# Altium integrated library EMG circuit board.IntLib: 8 symbols
Pins are listed as number, name and electrical type; pins without a type are passive.

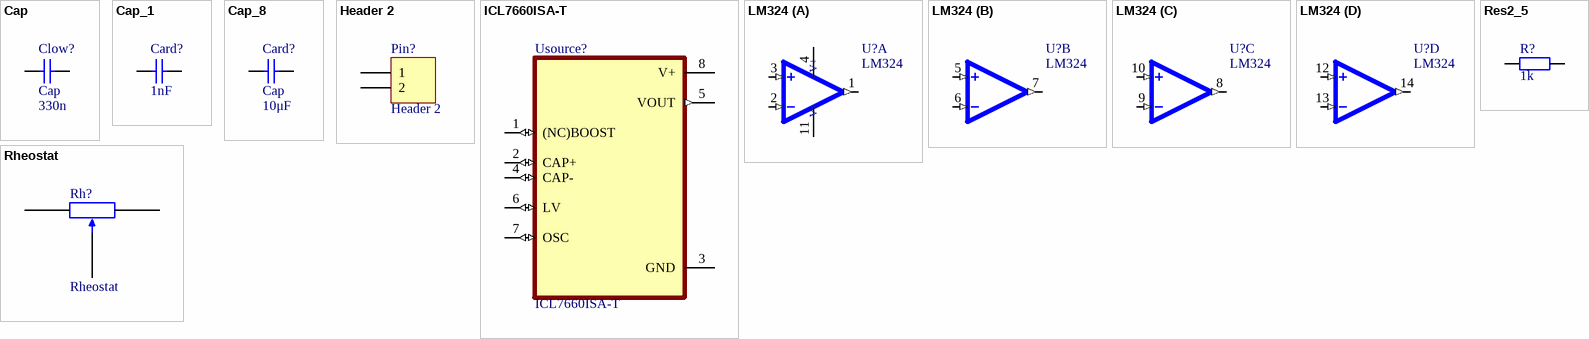
[diagram p0: symbols Cap to Rheostat]

## Cap
designator Clow?  value 330n
Capacitor; Published: 8-Jun-2000; LatestRevisionDate: 17-Jul-2002; LatestRevisionNote: Re-released for DXP Platform.; PackageReference: RAD-0.3; Publisher: Altium Limited; PackageDescription: Radial Cap, Thru-Hole; 2 Leads; 0.3 in Pin Spacing
footprint RAD-0.3 (Radial Cap, Thru-Hole; 2 Leads; 0.3 in Pin Spacing)
simulation model CAP (Capacitor)
signal-integrity model Cap
footprint 0603 (Chip Inductor, Body 0.6x0.3mm, IPC High Density)
footprint Model Name (Footprint not found)
footprint 0603 (Chip Inductor, Body 0.6x0.3mm, IPC High Density)
footprint LC-0603_C
pins: 1, 2

## Cap_1
designator Card?, comment value 1nF  (hidden comment: Cap)
Capacitor; Published: 8-Jun-2000; LatestRevisionDate: 17-Jul-2002; LatestRevisionNote: Re-released for DXP Platform.; PackageReference: RAD-0.3; Publisher: Altium Limited; PackageDescription: Radial Cap, Thru-Hole; 2 Leads; 0.3 in Pin Spacing
footprint RAD-0.3 (Radial Cap, Thru-Hole; 2 Leads; 0.3 in Pin Spacing)
simulation model CAP (Capacitor)
signal-integrity model Cap
footprint 0603 (Chip Inductor, Body 0.6x0.3mm, IPC High Density)
footprint 0603 (Chip Inductor, Body 0.6x0.3mm, IPC High Density)
footprint LC-0603_C
pins: 1, 2

## Cap_8
designator Card?, comment Cap  value 10μF
Capacitor; Published: 8-Jun-2000; LatestRevisionDate: 17-Jul-2002; LatestRevisionNote: Re-released for DXP Platform.; PackageReference: RAD-0.3; Publisher: Altium Limited; PackageDescription: Radial Cap, Thru-Hole; 2 Leads; 0.3 in Pin Spacing
footprint 6-0805_N (Chip Resistor, Body 2.0x1.2mm, IPC Medium Density)
simulation model CAP (Capacitor)
signal-integrity model Cap
pins: 1, 2

## Header 2
designator Pin?
Header, 2-Pin; LatestRevisionDate: 17-Jul-2002; LatestRevisionNote: Re-released for DXP Platform.; Publisher: Altium Limited
footprint HDR1X2 (Connector; Header; 2 Position)
signal-integrity model Connector
pins: 1, 2

## ICL7660ISA-T
designator Usource?
Switching Voltage Regulators Switched-Capacitor Voltage Converter; MF: Maxim Integrated; MP: ICL7660ISA-T; Availability: Unavailable; SnapEDA_Link: https://www.snapeda.com/parts/ICL7660ISA-T/Maxim%20Integrated/view-part/975477/?ref=snap; Package: None; Price: None; Value: *
footprint SOIC127P600X175-8N
pins: 1 (NC)BOOST (io), 2 CAP+ (io), 3 GND (power), 4 CAP- (io), 5 VOUT (out), 6 LV (io), 7 OSC (io), 8 V+ (power)

## LM324
designator U?
General Purpose Amplifier 4 Circuit 14-SOIC; MF: Texas Instruments; Price: None; MP: LM324; Package: SOIC-14 Texas Instruments; Value: *; Availability: Unavailable; SnapEDA_Link: https://www.snapeda.com/parts/LM324/Texas%20Instruments/view-part/2758578/?ref=snap
footprint SOIC127P600X175-14N
part A pins: 1 OUTPUT1 (out), 2 INVERTING_INPUT1 (in), 3 NON-INVERTING_INPUT1 (in), 4 VCC+ (power), 11 VCC- (power)
part B pins: 5 NON-INVERTING_INPUT2 (in), 6 INVERTING_INPUT2 (in), 7 OUTPUT2 (out)
part C pins: 8 OUTPUT3 (out), 9 INVERTING_INPUT3 (in), 10 NON-INVERTING_INPUT3 (in)
part D pins: 12 NON-INVERTING_INPUT4 (in), 13 INVERTING_INPUT4 (in), 14 OUTPUT4 (out)
part A text: V+; V-

## Res2_5
designator R?, comment value 1k  (hidden comment: Res2)
Resistor; Published: 8-Jun-2000; LatestRevisionDate: 17-Jul-2002; LatestRevisionNote: Re-released for DXP Platform.; PackageReference: AXIAL-0.4; Publisher: Altium Limited; PackageDescription: Axial Device, Thru-Hole; 2 Leads; 0.4 in Pin Spacing
simulation model RESISTOR (Resistor)
signal-integrity model Res
footprint LC-0603_R
pins: 1, 2

## Rheostat
designator Rh?
footprint PCBComponent_1
footprint Rheostat_SMD
pins: 1, 2, 3